# EAGLE library part ADXL78 (library Kas-Sensors)
ADXL78 Acceorometer ADXL78: SINGLE-AXIS, HIGH-G, IMEMS® ACCELEROMETERS
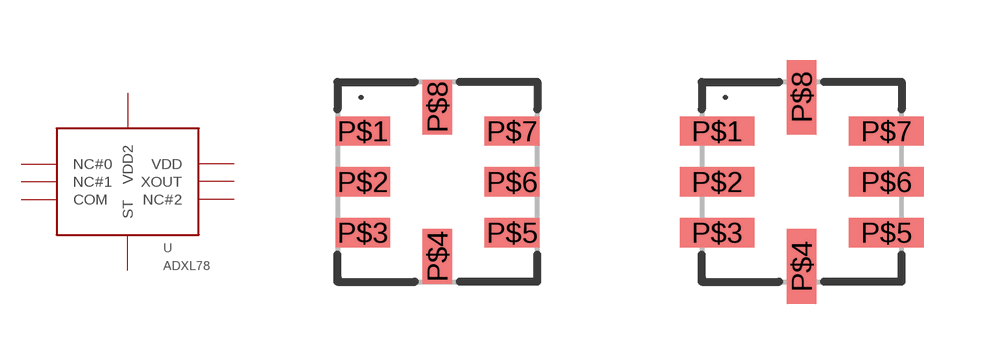
[diagram p2: symbol with the pads of LCC-8(5X5); footprints LCC-8(5X5), LCC-8(5X5)_HS]

Designator prefix U

## ADXL78ASD  [LCC-8(5X5)]
P$1  NC#0
P$2  NC#1
P$3  COM
P$4  ST
P$5  NC#2
P$6  XOUT
P$7  VDD
P$8  VDD2

## ADXL78  [LCC-8(5X5)_HS]
Pads as for LCC-8(5X5)

## Footprint LCC-8(5X5) (pad centres in mm)
smd 1.37 x 0.735: P$1 -1.867,1.27; P$2 -1.867,0; P$3 -1.867,-1.27; P$5 1.867,-1.27; P$6 1.867,0; P$7 1.867,1.27
smd 0.735 x 1.37: P$4 0,-1.867; P$8 0,1.867

## Footprint LCC-8(5X5)_HS (pad centres in mm)
smd 1.87 x 0.735: P$1 -2.117,1.27; P$2 -2.117,0; P$3 -2.117,-1.27; P$5 2.117,-1.27; P$6 2.117,0; P$7 2.117,1.27
smd 0.735 x 1.87: P$4 0,-2.117; P$8 0,2.117